# Altium schematic symbol library pin_headers.SchLib: 15 symbols
Pins are listed as number, name and electrical type; pins without a type are passive.

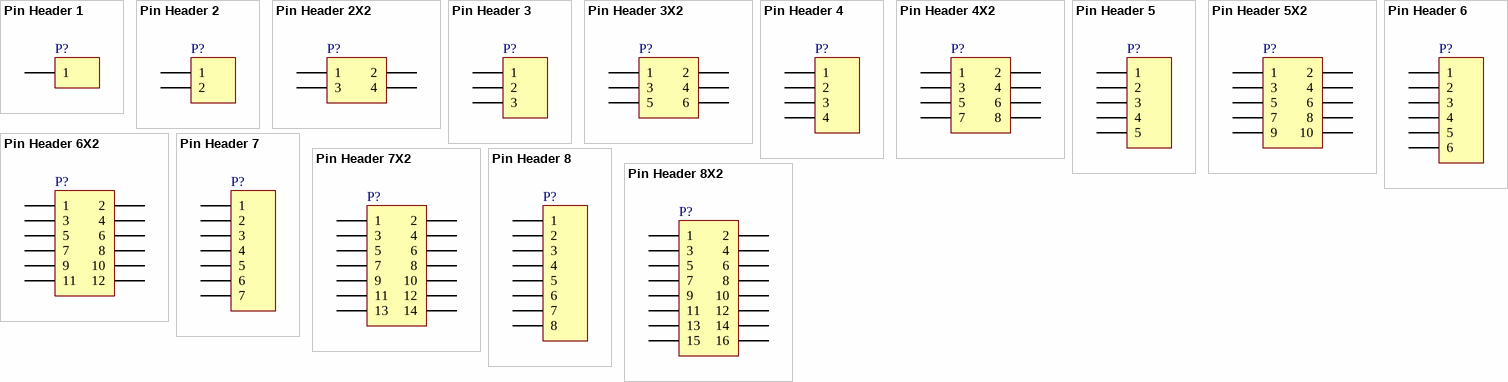
[diagram p0: symbols Pin Header 1 to Pin Header 8X2]

## Pin Header 1
designator P?
pin header, 1-pin
footprint PIN_HEADER_1X1 (pin header, 1-pin)
pins: 1

## Pin Header 2
designator P?
pin header, 2-pin
footprint PIN_HEADER_1X2 (pin header, 2-pin)
pins: 1, 2

## Pin Header 2X2
designator P?
pin header, 2-pin, dual row
footprint PIN_HEADER_2X2 (pin header, 2-pin, dual row)
pins: 1, 2, 3, 4

## Pin Header 3
designator P?
pin header, 3-pin
footprint PIN_HEADER_1X3 (pin header, 3-pin)
pins: 1, 2, 3

## Pin Header 3X2
designator P?
pin header, 3-pin, dual row
footprint PIN_HEADER_2X3 (pin header, 3-pin, dual row)
pins: 1, 2, 3, 4, 5, 6

## Pin Header 4
designator P?
pin header, 4-pin
footprint PIN_HEADER_1X4 (pin header, 4-pin)
pins: 1, 2, 3, 4

## Pin Header 4X2
designator P?
pin header, 4-pin, dual row
footprint PIN_HEADER_2X4 (pin header, 4-pin, dual row)
pins: 1, 2, 3, 4, 5, 6, 7, 8

## Pin Header 5
designator P?
pin header, 5-pin
footprint PIN_HEADER_1X5 (pin header, 5-pin)
pins: 1, 2, 3, 4, 5

## Pin Header 5X2
designator P?
pin header, 5-pin, dual row
footprint PIN_HEADER_2X5 (pin header, 5-pin, dual row)
pins: 1, 2, 3, 4, 5, 6, 7, 8, 9, 10

## Pin Header 6
designator P?
pin header, 6-pin
footprint PIN_HEADER_1X6 (pin header, 6-pin)
pins: 1, 2, 3, 4, 5, 6

## Pin Header 6X2
designator P?
pin header, 6-pin, dual row
footprint PIN_HEADER_2X6 (pin header, 6-pin, dual row)
pins: 1, 2, 3, 4, 5, 6, 7, 8, 9, 10, 11, 12

## Pin Header 7
designator P?
pin header, 7-pin
footprint PIN_HEADER_1X7 (pin header, 7-pin)
pins: 1, 2, 3, 4, 5, 6, 7

## Pin Header 7X2
designator P?
pin header, 7-pin, dual row
footprint PIN_HEADER_2X7 (pin header, 7-pin, dual row)
pins: 1, 2, 3, 4, 5, 6, 7, 8, 9, 10, 11, 12, 13, 14

## Pin Header 8
designator P?
pin header, 8-pin
footprint PIN_HEADER_1X8 (pin header, 8-pin)
pins: 1, 2, 3, 4, 5, 6, 7, 8

## Pin Header 8X2
designator P?
pin header, 8-pin, dual row
footprint PIN_HEADER_2X8 (pin header, 8-pin, dual row)
pins: 1, 2, 3, 4, 5, 6, 7, 8, 9, 10, 11, 12, 13, 14, 15, 16